# Altium schematic symbol library amp_instrument.SchLib: 55 symbols
Pins are listed as number, name and electrical type; pins without a type are passive.

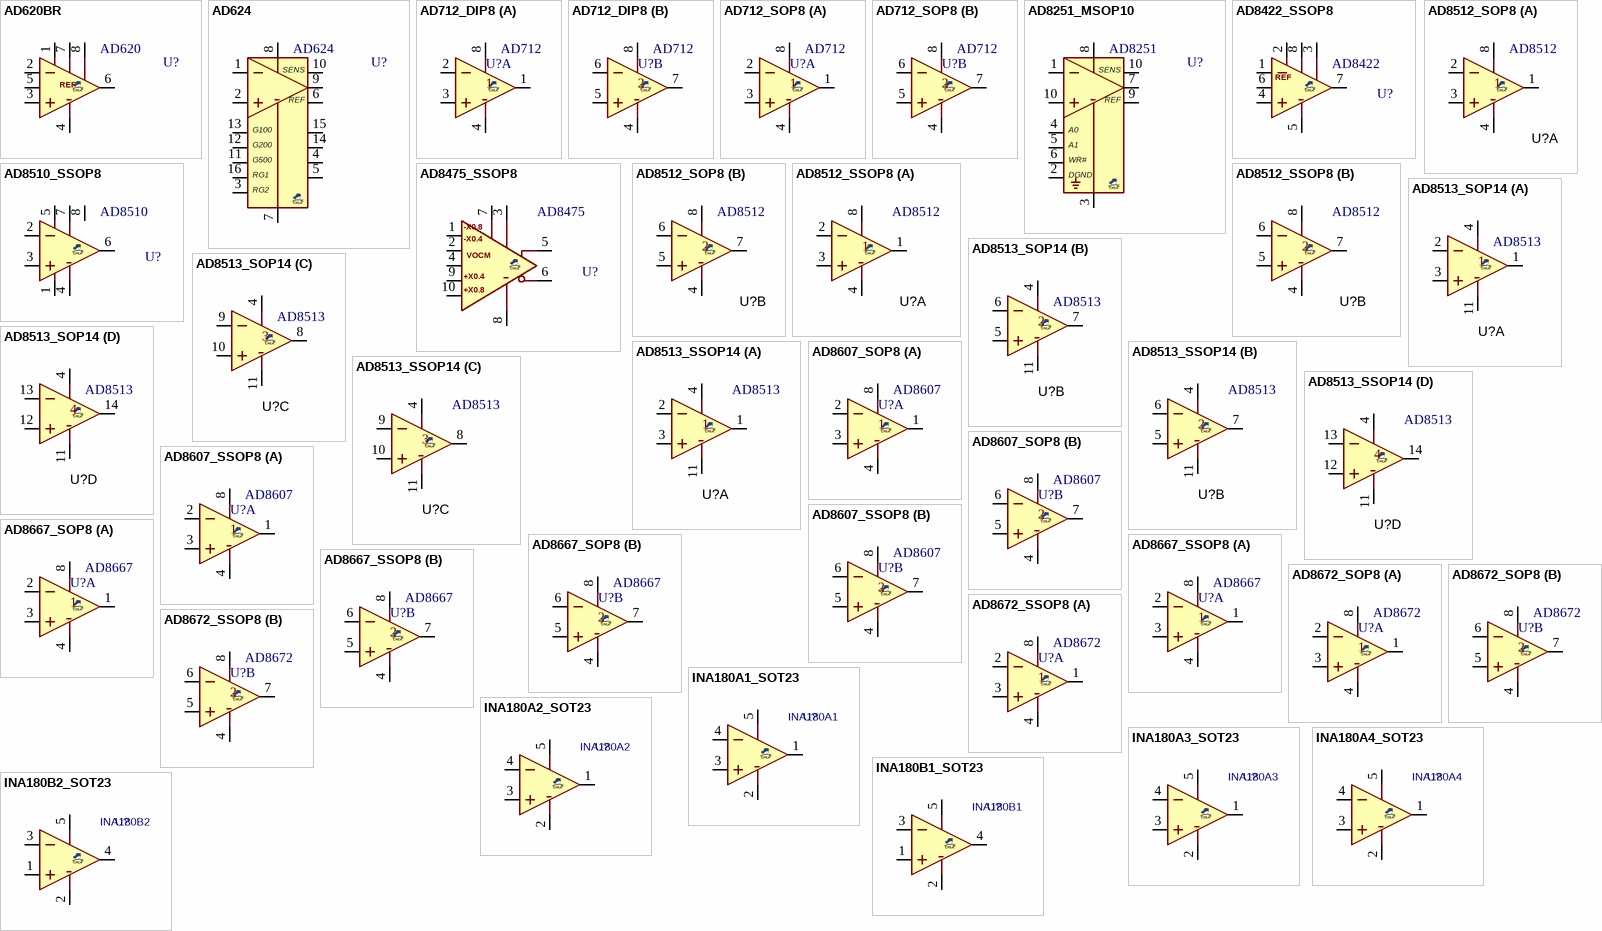
[diagram p0: symbols AD620BR to INA180B2_SOT23]

## AD620BR
designator U?, comment AD620
AMP, Inst, Low-power; MANF_P#: AD620BR; MANF: Analog Devices; VALUE: AD620
footprint SO_8
pins: 1 RG, 2 -IN, 3 +IN, 4 V-, 5 REF, 6 OUT, 7 V+, 8 RG

## AD624
designator U?
AMP, Inst, Precision; MANF: Analog Devices; MANF_P#: AD624; VALUE: AD624
footprint SO_8
pins: 1 -IN, 2 +IN, 3 RG2, 4, 5, 6 REF, 7 V-, 8 V+, 9 OUT, 10 SENS, 11 G500, 12 G200, 13 G100, 14, 15, 16 RG1

## AD712_DIP8
designator U?, comment AD712
AMP, Inst, Dual, Precision, Low Cost, High Sp, BiFET; MANF: Analog Devices; MANF_P#: AD712JN; PARAM2: ±4.5 To ±18 V Or +9 To +36 (V); VALUE: AD712
footprint DIP_8 (DIP, pitch 2.54mm, 300mil Width)
pins on every part: 4 V-, 8 V+
part A pins: 1 OUT, 2 IN-, 3 IN+
part B pins: 5 IN+, 6 IN-, 7 OUT

## AD712_SOP8
designator U?, comment AD712
AMP, Inst, Dual, Precision, Low Cost, High Sp, BiFET; MANF: Analog Devices; MANF_P#: AD712JRZ; PARAM2: ±4.5 To ±18 V Or +9 To +36 (V); VALUE: AD712
footprint SO_8
pins on every part: 4 V-, 8 V+
part A pins: 1 OUT, 2 IN-, 3 IN+
part B pins: 5 IN+, 6 IN-, 7 OUT

## AD8251_MSOP10
designator U?, comment AD8251
AMP, Inst, PGA, 10MHz, 20 V/μs, G=1/2/4/8, iCMOS; MANF_P#: AD8251ARMZ; MANF: Analog Devices; VALUE: AD8251
footprint SOG50_10
pins: 1 IN-, 2 DGND, 3 VS-, 4 A0, 5 A1, 6 ~{WR}, 7 OUT, 8 VS+, 9 REF, 10 SENS, 10 IN+
text: WR#

## AD8422_SSOP8
designator U?, comment AD8422
AMP, Inst, Precision,; MANF: Analog Devices; MANF_P#: AD8422BRMZ; PARAM: 2.2MHz BW, 8nV/√Hz@1KHz, 20mA OUTPUT; PARAM2: 4.6~36V/±2.3~±18V; PRICE: 5.8$; VALUE: AD8422
footprint SOG65_8_3 (TSSOP8, MICRO8,  DGK VSSOP-8, MSOP8,   RM-8, MS8, MSOP-8, TSSO3X5-G8/D3.1, 8 uMAX, usop8/8uSOP, MO-187AA, MO-153AA, SSOP DCT SM8 (TI), pitch: 0.65mm, 3.0mmX3.0mm)
pins: 1 IN-, 2 RG, 3 RG, 4 IN+, 5 V-, 6 REF, 7 OUT, 8 V+

## AD8475_SSOP8
designator U?, comment AD8475
AMP, Inst, Precision, Fully Differential, Selectable Gain; MANF: Analog Devices; MANF_P#: AD8475ARMZ; PARAM: 150MHz BW, 10nV/√Hz@1KHz, 110mA OUT; PARAM2: 3~10V/±1.5~±5V; PRICE: 5.5$; VALUE: AD8475
footprint SOG50_10 (MSSOP10, 3X3mm 0.5mm pitch, S-PDSO10_S300-50, MSOP10, 10uSOP/usop10 (Dallas), MO-187BA(JEDEC))
pins: 1 IN-0.8x, 2 IN-0.4x, 3 V+, 4 VOCM, 5 OUT+, 6 OUT-, 7 NC, 8 V-, 9 IN+0.4x, 10 IN+0.8x
text: -X0.8; -X0.4; +X0.4; +X0.8

## AD8510_SSOP8
designator U?, comment AD8510
AMP, Inst, Precision, Low Noise, Low Input; MANF: Analog Devices; MANF_P#: AD8510ARMZ; PARAM: 8MHz BW, 8nV/√Hz@1KHz, 70mA OUT; PARAM2: ±5~±15V; PRICE: 3$; VALUE: AD8510
footprint SOG65_8_3 (TSSOP8, MICRO8,  DGK VSSOP-8, MSOP8,   RM-8, MS8, MSOP-8, TSSO3X5-G8/D3.1, 8 uMAX, usop8/8uSOP, MO-187AA, MO-153AA, SSOP DCT SM8 (TI), pitch: 0.65mm, 3.0mmX3.0mm)
pins: 1 VOSTRIM, 2 IN-, 3 IN+, 4 V-, 5 VOSTRIM, 6 OUT, 7 V+, 8 NC

## AD8512_SOP8
designator U?, comment AD8512
AMP, Inst, Dual, Precision, Very Low Noise, Low Input Bias Current, Wide Bandwidth JFET; MANF: Analog Devices Inc; MANF_P#: AD8512BRZ; PARAM2: 2.7 V ~ 16 V, ±1.35 V ~ 8 V; VALUE: AD8512
footprint SO_8
pins on every part: 4 V- (power), 8 V+ (power)
part A pins: 1 OUT, 2 IN-, 3 IN+
part B pins: 5 IN+, 6 IN-, 7 OUT

## AD8512_SSOP8
designator U?, comment AD8512
AMP, Inst, Dual, Precision, Very Low Noise, Low Input Bias Current, Wide Bandwidth JFET; MANF: Analog Devices Inc; MANF_P#: AD8510ARMZ; PARAM2: 2.7 V ~ 16 V, ±1.35 V ~ 8 V; VALUE: AD8512
footprint SOG65_8_3 (pitch: 0.65mm, 3.0mmX3.0mm, SSOP DCT SM8 (TI), TSSOP8, MICRO8, DGK, MSOP8, RM-8, MS8, MSOP-8, usop8/8uSOP)
pins on every part: 4 V- (power), 8 V+ (power)
part A pins: 1 OUT, 2 IN-, 3 IN+
part B pins: 5 IN+, 6 IN-, 7 OUT

## AD8513_SOP14
designator U?, comment AD8513
AMP, Inst, QuaD, Precision, Very Low Noise, Low Input Bias Current, Wide Bandwidth JFET; MANF: Analog Devices Inc; MANF_P#: AD8513ARZ; PARAM2: ±4.5 V ~ 18 V; VALUE: AD8513
footprint SO_14
part A pins: 1 OUT, 2 IN-, 3 IN+, 4 V+, 11 V-
part B pins: 4 V+, 5 IN+, 6 IN-, 7 OUT, 11 V-
part C pins: 4 V+, 8 OUT, 9 IN-, 10 IN+, 11 V-
part D pins: 4 V+, 11 V-, 12 IN+, 13 IN-, 14 OUT

## AD8513_SSOP14
designator U?, comment AD8513
AMP, Inst, QuaD, Precision, Very Low Noise, Low Input Bias Current, Wide Bandwidth JFET; MANF: Analog Devices Inc; MANF_P#: AD8513ARUZ; PARAM2: ±4.5 V ~ 18 V; VALUE: AD8513
footprint SOG65_14 (PW TSSOP (TI), MO-153-AB (JEDEC), 14Lead, pitch: 0.65mm, 5x4.4x1.2mm)
part A pins: 1 OUT, 2 IN-, 3 IN+, 4 V+, 11 V-
part B pins: 4 V+, 5 IN+, 6 IN-, 7 OUT, 11 V-
part C pins: 4 V+, 8 OUT, 9 IN-, 10 IN+, 11 V-
part D pins: 4 V+, 11 V-, 12 IN+, 13 IN-, 14 OUT

## AD8607_SOP8
designator U?, comment AD8607
AMP, Inst, Dual, Precision Micropower, Low Noise CMOS; MANF: Analog Devices; MANF_P#: AD8607AR, AD8607ARZ; PARAM2: 1.8 V~5.0 V single supply, ±0.9 V~±2.5 V; VALUE: AD8607
footprint SO_8
pins on every part: 4 V-, 8 V+
part A pins: 1 OUT, 2 IN-, 3 IN+
part B pins: 5 IN+, 6 IN-, 7 OUT

## AD8607_SSOP8
designator U?, comment AD8607
AMP, Inst, Dual, Precision Micropower, Low Noise CMOS; MANF: Analog Devices; MANF_P#: AD8607ARM; PARAM2: 1.8 V~5.0 V single supply, ±0.9 V~±2.5 V; VALUE: AD8607
footprint SOG65_8_3 (pitch: 0.65mm, 3.0mmX3.0mm, SSOP DCT SM8 (TI), TSSOP8, MICRO8, DGK, MSOP8, RM-8, MS8, MSOP-8, usop8/8uSOP)
pins on every part: 4 V-, 8 V+
part A pins: 1 OUT, 2 IN-, 3 IN+
part B pins: 5 IN+, 6 IN-, 7 OUT

## AD8667_SOP8
designator U?, comment AD8667
AMP, Inst, Dual, Precision, Low Noise, 16V, CMOS; MANF: Analog Devices; MANF_P#: AD8667ARZ; PARAM2: 5~16V single supply, ±2.5~±8V; VALUE: AD8667
footprint SO_8
pins on every part: 4 V-, 8 V+
part A pins: 1 OUT, 2 IN-, 3 IN+
part B pins: 5 IN+, 6 IN-, 7 OUT

## AD8667_SSOP8
designator U?, comment AD8667
AMP, Inst, Dual, Precision, Low Noise, 16V, CMOS; MANF: Analog Devices; MANF_P#: AD8667ARMZ; PARAM2: 5~16V single supply, ±2.5~±8V; VALUE: AD8667
footprint SOG65_8_3 (pitch: 0.65mm, 3.0mmX3.0mm, SSOP DCT SM8 (TI), TSSOP8, MICRO8, DGK, MSOP8, RM-8, MS8, MSOP-8, usop8/8uSOP)
pins on every part: 4 V-, 8 V+
part A pins: 1 OUT, 2 IN-, 3 IN+
part B pins: 5 IN+, 6 IN-, 7 OUT

## AD8672_SOP8
designator U?, comment AD8672
AMP, Inst, Dual, Precision, Low Noise, Low Input Bias Current; MANF: Analog Devices; MANF_P#: AD8672AR, AD8672ARZ; PARAM2: ±5~±15V; VALUE: AD8672
footprint SO_8
pins on every part: 4 V-, 8 V+
part A pins: 1 OUT, 2 IN-, 3 IN+
part B pins: 5 IN+, 6 IN-, 7 OUT

## AD8672_SSOP8
designator U?, comment AD8672
AMP, Inst, Dual, Precision, Low Noise, Low Input Bias Current; MANF: Analog Devices; MANF_P#: AD8672ARMZ; PARAM2: ±5~±15V; VALUE: AD8672
footprint SOG65_8_3 (pitch: 0.65mm, 3.0mmX3.0mm, SSOP DCT SM8 (TI), TSSOP8, MICRO8, DGK, MSOP8, RM-8, MS8, MSOP-8, usop8/8uSOP)
pins on every part: 4 V-, 8 V+
part A pins: 1 OUT, 2 IN-, 3 IN+
part B pins: 5 IN+, 6 IN-, 7 OUT

## INA180A1_SOT23
designator U?, comment INA180A1
AMP, Inst, current-sense, low-Drift; MANF: TEXAS INSTRUMENTS; MANF_P#: INA180A1IDBV; PARAM2: 2.7~5.5Vcc, 40nV/√Hz noise, BW 350KHz; PARAM: 1uV/°C Drift, GAIN 20, -45~125°C; PRICE: 0.5$; VALUE: INA180A1
footprint SOT23_5 (SOT-23-5, SOT25, SOT-25, DBV(R-PDSO-G5), SOT753, TSOT23-5, SC-74A, SOT23-5, S5-T (LINEAR), MO-178AA, MO-193AB(JEDEC), MF05A (NS), TSOP-5(ON), UJ-5 (AD), 1.5x3mm, Pitch 0.65mm)
pins: 1 OUT, 2 GND, 3 IN+, 4 IN-, 5 VS

## INA180A2_SOT23
designator U?, comment INA180A2
AMP, Inst, current-sense, low-Drift; MANF: TEXAS INSTRUMENTS; MANF_P#: INA180A2IDBV; PARAM2: 2.7~5.5Vcc, 40nV/√Hz noise, BW 350KHz; PARAM: 1uV/°C Drift, GAIN 50, -45~125°C; PRICE: 0.5$; VALUE: INA180A2
footprint SOT23_5 (SOT-23-5, SOT25, SOT-25, DBV(R-PDSO-G5), SOT753, TSOT23-5, SC-74A, SOT23-5, S5-T (LINEAR), MO-178AA, MO-193AB(JEDEC), MF05A (NS), TSOP-5(ON), UJ-5 (AD), 1.5x3mm, Pitch 0.65mm)
pins: 1 OUT, 2 GND, 3 IN+, 4 IN-, 5 VS

## INA180A3_SOT23
designator U?, comment INA180A3
AMP, Inst, current-sense, low-Drift; MANF: TEXAS INSTRUMENTS; MANF_P#: INA180A3IDBV; PARAM2: 2.7~5.5Vcc, 40nV/√Hz noise, BW 350KHz; PARAM: 1uV/°C Drift, GAIN 100, -45~125°C; PRICE: 0.5$; VALUE: INA180A3
footprint SOT23_5 (SOT-23-5, SOT25, SOT-25, DBV(R-PDSO-G5), SOT753, TSOT23-5, SC-74A, SOT23-5, S5-T (LINEAR), MO-178AA, MO-193AB(JEDEC), MF05A (NS), TSOP-5(ON), UJ-5 (AD), 1.5x3mm, Pitch 0.65mm)
pins: 1 OUT, 2 GND, 3 IN+, 4 IN-, 5 VS

## INA180A4_SOT23
designator U?, comment INA180A4
AMP, Inst, current-sense, low-Drift; MANF: TEXAS INSTRUMENTS; MANF_P#: INA180A4IDBV; PARAM2: 2.7~5.5Vcc, 40nV/√Hz noise, BW 350KHz; PARAM: 1uV/°C Drift, GAIN 200, -45~125°C; PRICE: 0.5$; VALUE: INA180A4
footprint SOT23_5 (SOT-23-5, SOT25, SOT-25, DBV(R-PDSO-G5), SOT753, TSOT23-5, SC-74A, SOT23-5, S5-T (LINEAR), MO-178AA, MO-193AB(JEDEC), MF05A (NS), TSOP-5(ON), UJ-5 (AD), 1.5x3mm, Pitch 0.65mm)
pins: 1 OUT, 2 GND, 3 IN+, 4 IN-, 5 VS

## INA180B1_SOT23
designator U?, comment INA180B1
AMP, Inst, current-sense, low-Drift; MANF: TEXAS INSTRUMENTS; MANF_P#: INA180B1IDBV; PARAM2: 2.7~5.5Vcc, 40nV/√Hz noise, BW 350KHz; PARAM: 1uV/°C Drift, GAIN 20, -45~125°C; PRICE: 0.5$; VALUE: INA180B1
footprint SOT23_5 (SOT-23-5, SOT25, SOT-25, DBV(R-PDSO-G5), SOT753, TSOT23-5, SC-74A, SOT23-5, S5-T (LINEAR), MO-178AA, MO-193AB(JEDEC), MF05A (NS), TSOP-5(ON), UJ-5 (AD), 1.5x3mm, Pitch 0.65mm)
pins: 1 IN+, 2 GND, 3 IN-, 4 OUT, 5 VS

## INA180B2_SOT23
designator U?, comment INA180B2
AMP, Inst, current-sense, low-Drift; MANF: TEXAS INSTRUMENTS; MANF_P#: INA180B2IDBV; PARAM2: 2.7~5.5Vcc, 40nV/√Hz noise, BW 350KHz; PARAM: 1uV/°C Drift, GAIN 50, -45~125°C; PRICE: 0.5$; VALUE: INA180B2
footprint SOT23_5 (SOT-23-5, SOT25, SOT-25, DBV(R-PDSO-G5), SOT753, TSOT23-5, SC-74A, SOT23-5, S5-T (LINEAR), MO-178AA, MO-193AB(JEDEC), MF05A (NS), TSOP-5(ON), UJ-5 (AD), 1.5x3mm, Pitch 0.65mm)
pins: 1 IN+, 2 GND, 3 IN-, 4 OUT, 5 VS

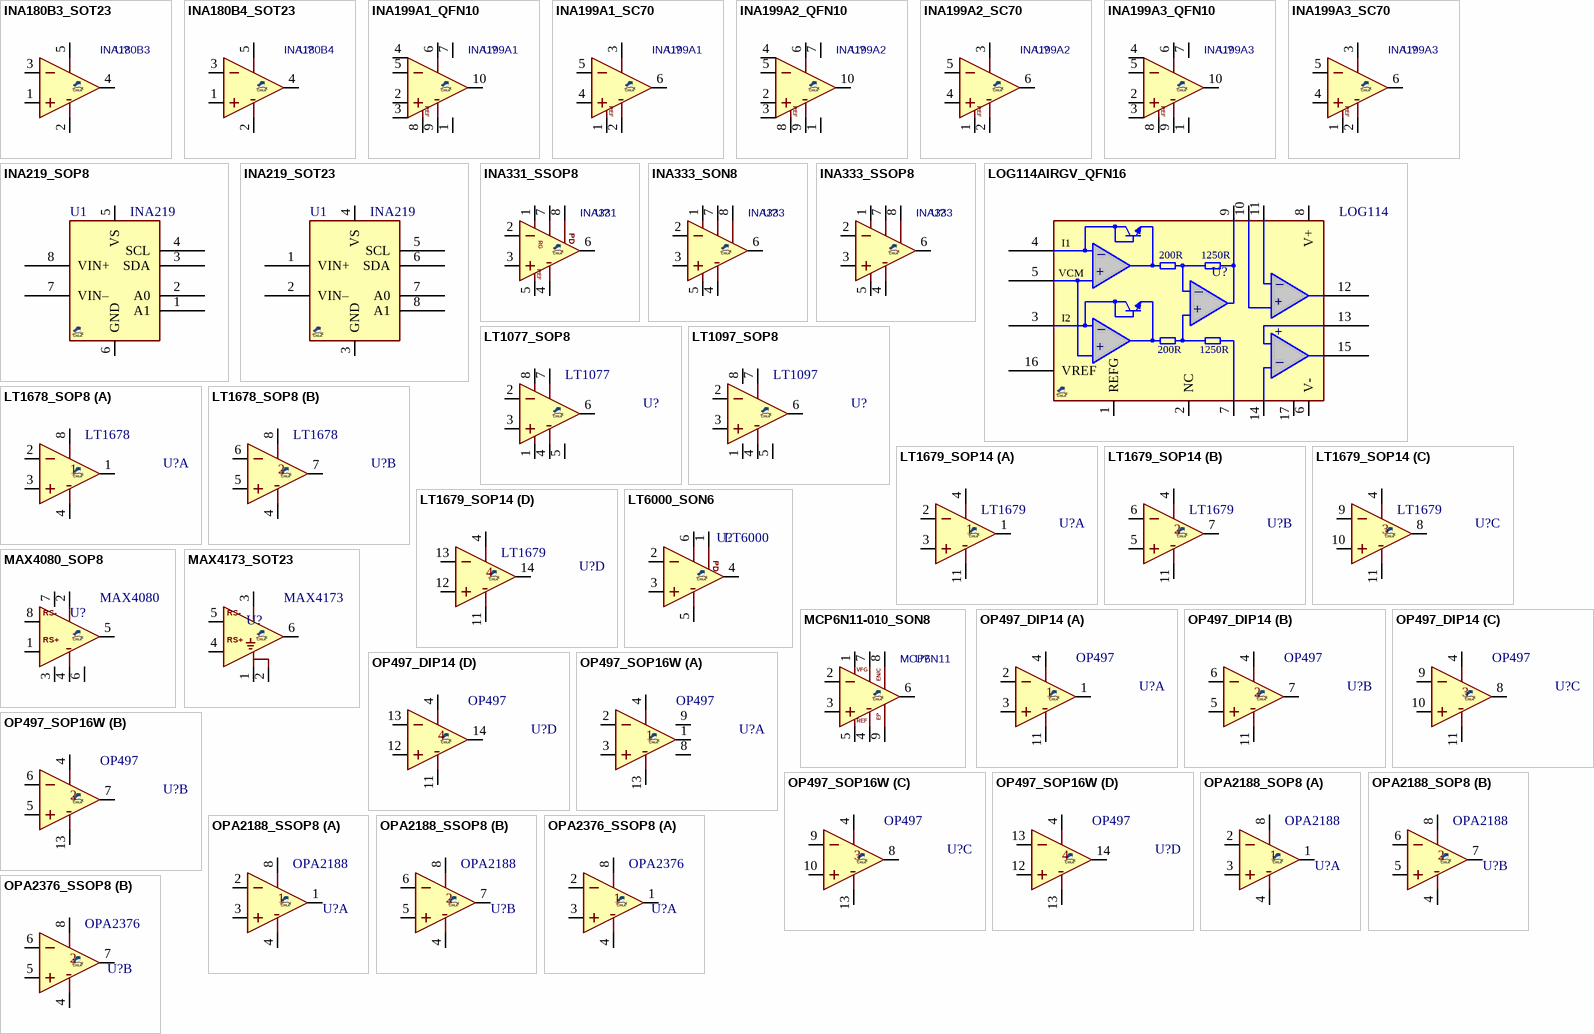
[diagram p1: symbols INA180B3_SOT23 to OPA2376_SSOP8]

## INA180B3_SOT23
designator U?, comment INA180B3
AMP, Inst, current-sense, low-Drift; MANF: TEXAS INSTRUMENTS; MANF_P#: INA180B3IDBV; PARAM2: 2.7~5.5Vcc, 40nV/√Hz noise, BW 350KHz; PARAM: 1uV/°C Drift, GAIN 100, -45~125°C; PRICE: 0.5$; VALUE: INA180B3
footprint SOT23_5 (SOT-23-5, SOT25, SOT-25, DBV(R-PDSO-G5), SOT753, TSOT23-5, SC-74A, SOT23-5, S5-T (LINEAR), MO-178AA, MO-193AB(JEDEC), MF05A (NS), TSOP-5(ON), UJ-5 (AD), 1.5x3mm, Pitch 0.65mm)
pins: 1 IN+, 2 GND, 3 IN-, 4 OUT, 5 VS

## INA180B4_SOT23
designator U?, comment INA180B4
AMP, Inst, current-sense, low-Drift; MANF: TEXAS INSTRUMENTS; MANF_P#: INA180B4IDBV; PARAM2: 2.7~5.5Vcc, 40nV/√Hz noise, BW 350KHz; PARAM: 1uV/°C Drift, GAIN 200, -45~125°C; PRICE: 0.5$; VALUE: INA180B4
footprint SOT23_5 (SOT-23-5, SOT25, SOT-25, DBV(R-PDSO-G5), SOT753, TSOT23-5, SC-74A, SOT23-5, S5-T (LINEAR), MO-178AA, MO-193AB(JEDEC), MF05A (NS), TSOP-5(ON), UJ-5 (AD), 1.5x3mm, Pitch 0.65mm)
pins: 1 IN+, 2 GND, 3 IN-, 4 OUT, 5 VS

## INA199A1_QFN10
designator U?, comment INA199A1
AMP, Inst, current-sense, low-Drift; MANF: TEXAS INSTRUMENTS; MANF_P#: INA199A1RSW; PARAM2: 2.7~26Vcc, 25nV/√Hz noise, BW 80KHz; PARAM: 0.5uV/°C Drift, GAIN 50, -45~125°C; PRICE: 0.8$; VALUE: INA199A1
footprint QFN40_10_1418 (PUQFN-10 RSW 1.8X1.4mm, 0.4mm pitch)
pins: 1 NC, 2 IN+, 3 IN+, 4 IN-, 5 IN-, 6 V+, 7 NC, 8 REF, 9 GND, 10 OUT

## INA199A1_SC70
designator U?, comment INA199A1
AMP, Inst, current-sense, low-Drift; MANF: TEXAS INSTRUMENTS; MANF_P#: INA199A1DCK; PARAM2: 2.7~26Vcc, 25nV/√Hz noise, BW 80KHz; PARAM: 0.5uV/°C Drift, GAIN 50, -45~125°C; PRICE: 0.8$; VALUE: INA199A1
footprint SOT363_6 (SOT-363, SC-70-6, DCK, BFS483, SC-88, MO-203AB, 2X1.2mm, 0.65mm pitch)
pins: 1 REF, 2 GND, 3 V+, 4 IN+, 5 IN-, 6 OUT

## INA199A2_QFN10
designator U?, comment INA199A2
AMP, Inst, current-sense, low-Drift; MANF: TEXAS INSTRUMENTS; MANF_P#: INA199A2RSW; PARAM2: 2.7~26Vcc, 25nV/√Hz noise, BW 80KHz; PARAM: 0.5uV/°C Drift, GAIN 100, -45~125°C; PRICE: 0.8$; VALUE: INA199A2
footprint QFN40_10_1418 (PUQFN-10 RSW 1.8X1.4mm, 0.4mm pitch)
pins: 1 NC, 2 IN+, 3 IN+, 4 IN-, 5 IN-, 6 V+, 7 NC, 8 REF, 9 GND, 10 OUT

## INA199A2_SC70
designator U?, comment INA199A2
AMP, Inst, current-sense, low-Drift; MANF: TEXAS INSTRUMENTS; MANF_P#: INA199A2DCK; PARAM2: 2.7~26Vcc, 25nV/√Hz noise, BW 80KHz; PARAM: 0.5uV/°C Drift, GAIN 100, -45~125°C; PRICE: 0.8$; VALUE: INA199A2
footprint SOT363_6 (SOT-363, SC-70-6, DCK, BFS483, SC-88, MO-203AB, 2X1.2mm, 0.65mm pitch)
pins: 1 REF, 2 GND, 3 V+, 4 IN+, 5 IN-, 6 OUT

## INA199A3_QFN10
designator U?, comment INA199A3
AMP, Inst, current-sense, low-Drift; MANF: TEXAS INSTRUMENTS; MANF_P#: INA199A3RSW; PARAM2: 2.7~26Vcc, 25nV/√Hz noise, BW 80KHz; PARAM: 0.5uV/°C Drift, GAIN 200, -45~125°C; PRICE: 0.8$; VALUE: INA199A3
footprint QFN40_10_1418 (PUQFN-10 RSW 1.8X1.4mm, 0.4mm pitch)
pins: 1 NC, 2 IN+, 3 IN+, 4 IN-, 5 IN-, 6 V+, 7 NC, 8 REF, 9 GND, 10 OUT

## INA199A3_SC70
designator U?, comment INA199A3
AMP, Inst, current-sense, low-Drift; MANF: TEXAS INSTRUMENTS; MANF_P#: INA199A3DCK; PARAM2: 2.7~26Vcc, 25nV/√Hz noise, BW 80KHz; PARAM: 0.5uV/°C Drift, GAIN 200, -45~125°C; PRICE: 0.8$; VALUE: INA199A3
footprint SOT363_6 (SOT-363, SC-70-6, DCK, BFS483, SC-88, MO-203AB, 2X1.2mm, 0.65mm pitch)
pins: 1 REF, 2 GND, 3 V+, 4 IN+, 5 IN-, 6 OUT

## INA219_SOP8
designator U1, comment INA219
Current/Power Monitor, Zerø-Drift, Bidirectional, I2C; MANF: TEXAS INSTRUMENTS; MANF_P#: INA219AID, INA219BID; PARAM2: 3~5.5VCC; PARAM: 0~26V, 0.5%, -40~125°C; VALUE: INA219
footprint SO_8 (SOP-8, 5x3.9mm body 1.27mm pitch, SOT96-1, M08A, S8, SOIC8, VO8, MS-012AA(JEDEC), R-8, 8S2, VOG8)
pins: 1 A1, 2 A0, 3 SDA, 4 SCL, 5 VS, 6 GND, 7 VIN–, 8 VIN+

## INA219_SOT23
designator U1, comment INA219
Current/Power Monitor, Zerø-Drift, Bidirectional, I2C; MANF: TEXAS INSTRUMENTS; MANF_P#: INA219AIDCN, INA219BIDCN; PARAM2: 3~5.5VCC; PARAM: 0~26V, 0.5%, -40~125°C; VALUE: INA219
footprint SOT23_8 (SOT23, 8-Leads, DDF, 2.90x2.80mm, Pitch 0.65mm, DSO65_8_300X150)
pins: 1 VIN+, 2 VIN–, 3 GND, 4 VS, 5 SCL, 6 SDA, 7 A0, 8 A1

## INA331_SSOP8
designator U?, comment INA331
AMP, Inst, Micro-power, Zerø-Drift; MANF: TEXAS INSTRUMENTS; MANF_P#: INA331IDGK; PARAM2: 2.7~5.5Vcc, 50nV/√Hz noise, 2MHz; PARAM: 0.1uV/°C Drift, 0.5pA input, -55~125°C; PRICE: 2.5$; VALUE: INA331
footprint SOG65_8_3 (TSSOP8, MICRO8,  DGK VSSOP-8, MSOP8,   RM-8, MS8, MSOP-8, TSSO3X5-G8/D3.1, 8 uMAX, usop8/8uSOP, MO-187AA, MO-153AA, SSOP DCT SM8 (TI), pitch: 0.65mm, 3.0mmX3.0mm)
pins: 1 RG1, 2 VIN_N, 3 VIN_P, 4 V-, 5 REF, 6 VOUT, 7 V+, 8 RG2
text: PD; RG

## INA333_SON8
designator U?, comment INA333
AMP, Inst, Micro-power, Zerø-Drift; MANF: TEXAS INSTRUMENTS; MANF_P#: INA333AIDRG; PARAM2: 1.8~5.5Vcc, 50nV/√Hz noise; PARAM: 0.1uV/°C Drift, 200pA input, -40~125°C; PRICE: 5$; VALUE: INA333
footprint SON50_8T_3030 (WSON-8, DRG, LFCSP_WD, 3X3mm 0.5mm pitch with Thermal pad)
pins: 1 RG1, 2 VIN_N, 3 VIN_P, 4 V-, 5 REF, 6 VOUT, 7 V+, 8 RG2

## INA333_SSOP8
designator U?, comment INA333
AMP, Inst, Micro-power, Zerø-Drift; MANF: TEXAS INSTRUMENTS; MANF_P#: INA333AIDGK; PARAM2: 1.8~5.5Vcc, 50nV/√Hz noise; PARAM: 0.1uV/°C Drift, 200pA input, -40~125°C; PRICE: 5$; VALUE: INA333
footprint SOG65_8_3 (TSSOP8, MICRO8,  DGK VSSOP-8, MSOP8,   RM-8, MS8, MSOP-8, TSSO3X5-G8/D3.1, 8 uMAX, usop8/8uSOP, MO-187AA, MO-153AA, SSOP DCT SM8 (TI), pitch: 0.65mm, 3.0mmX3.0mm)
pins: 1 RG1, 2 VIN_N, 3 VIN_P, 4 V-, 5 REF, 6 VOUT, 7 V+, 8 RG2

## LOG114AIRGV_QFN16
designator U?, comment LOG114
AMP, Inst, Logarithmic, Precision, High-Speed; MANF: Texas Instruments; MANF_P#: LOG114AIRGV; VALUE: LOG114
footprint QFN65_16T (MO-220 VGGC, MO-220 WGGC-4(JEDEC), 4X4mm, 0.65mm)
pins: 1 REFG, 2 NC, 3 I2, 4 I1, 5 Vcmin, 6 V-, 7 CON, 8 V+, 9 VlogOUT, 10 +IN4, 11 -IN4, 12 VO4, 13 +IN5, 14 -IN5, 15 VO5, 16 VREF, 17 PAD
text: _; 200R; 1250R; VCM; +

## LT1077_SOP8
designator U?, comment LT1077
AMP, Inst, Precision, Micropower; MANF: Linear Technology; MANF_P#: LT1077IS8#; PARAM2: 2.2~30V, ±1.1~15V; PARAM: GBW= 230KHz; VALUE: LT1077
footprint SO_8
pins: 1 VOSTRM, 2 IN-, 3 IN+, 4 V-, 5 NC, 6 OUT, 7 V+, 8 VOSTRIM

## LT1097_SOP8
designator U?, comment LT1097
AMP, Inst, Precision, Low Power, Low Cost; MANF: Linear Technology; MANF_P#: LT1097S8#; PARAM2: 2.7~16 V, ±1.35~8V; VALUE: LT1097
footprint SO_8
pins: 1, 2 IN-, 3 IN+, 4 V-, 5, 6 OUT, 7 V+, 8

## LT1678_SOP8
designator U?, comment LT1678
AMP, Inst, Dual, Precision, Low Noise, RR; MANF: Linear Technology; MANF_P#: LT1678CS8, LT1678IS8; PARAM2: 2.7~36V, ±1.35~18V; VALUE: LT1678
footprint SO_8
part A pins: 1 OUT, 2 IN-, 3 IN+, 4 V-, 8 V+
part B pins: 4 V-, 5 IN+, 6 IN-, 7 OUT, 8 V+

## LT1679_SOP14
designator U?, comment LT1679
AMP, Inst, Dual, Precision, Low Noise, RR; MANF: Linear Technology; MANF_P#: LT1679CS, LT1679IS; PARAM2: 2.7~36V, ±1.35~18V; VALUE: LT1679
footprint SO_14
pins on every part: 4 V+, 11 V-
part A pins: 1 OUT, 2 IN-, 3 IN+
part B pins: 5 IN+, 6 IN-, 7 OUT
part C pins: 8 OUT, 9 IN-, 10 IN+
part D pins: 12 IN+, 13 IN-, 14 OUT

## LT6000_SON6
designator U?, comment LT6000
AMP, Inst, Precision, 1.8V; MANF: Linear Technology; MANF_P#: LT6000CDCB, LT6000IDCB; VALUE: LT6000
footprint SON50_6T_2X3 (6-Lead DFN Pitch: 0.5mm 2x3x0.75mm with Thermal pad)
pins: 1 SHDN#, 2 IN-, 3 IN+, 4 OUT, 5 V-, 6 V+
text: PD

## MAX4080_SOP8
designator U?, comment MAX4080
AMP, Inst, Current Sense, 76V High-Side, w/V Out; MANF: Maxim Integrated; MANF_P#: MAX4080SASA+; VALUE: MAX4080
footprint SO_8
pins: 1 RS+, 2 VCC, 3, 4 GND, 5 OUT, 6, 7, 8 RS-

## MAX4173_SOT23
designator U?, comment MAX4173
AMP, Inst, Current Sense, w/V Output; MANF: MAX4173HEUT+T; MANF_P#: MAX4173FEUT+T, MAX4173HEUT+T; VALUE: MAX4173
footprint SOT23_6 (SOT-23-6, MICRO6, SOT-26, SOT457, SuperSOT6, TSOP-6, HMC313, MO-178AB, MO-193AA, TSOT)
pins: 1 GND, 2 GND2, 3 VCC, 4 RS+, 5 RS-, 6 OUT

## MCP6N11-010_SON8
designator U?, comment MCP6N11
AMP, Inst,; MANF: Microchip; MANF_P#: MCP6N11T-010E/MNY; PARAM2: 1.8~5.5Vcc, 950nV/√Hz noise, Gmin 10; PARAM: ±2.7uV/°C Drift, 10pA input, -40~125°C; PRICE: 1$; VALUE: MCP6N11
footprint SON50_8T_2030 (TDFN, UFDFPN8, Pitch: 0.5mm 2x3x0.8mm with Thermal pad)
pins: 1 VFG, 2 VIM, 3 VIP, 4 VSS, 5 VREF, 6 VOUT, 7 VDD, 8 EN/CAL, 9 EP
text: EN/C; REF

## OP497_DIP14
designator U?, comment OP497
AMP, Inst, Precision, PicoampereInputCurrent, QUAD; MANF: Analog Devices; MANF_P#: OP497GPZ, OP497FPZ; PARAM2: ±2~±20V; PARAM: 75uV OFFSET, 1uV/°C DRIFT, 150pA BIAS, -40~85°C; PRICE: 10$; VALUE: OP497
footprint DIP_14 (DIP, pitch 2.54mm, 300mil Width)
pins on every part: 4 V+, 11 V-
part A pins: 1 OUT, 2 IN-, 3 IN+
part B pins: 5 IN+, 6 IN-, 7 OUT
part C pins: 8 OUT, 9 IN-, 10 IN+
part D pins: 12 IN+, 13 IN-, 14 OUT

## OP497_SOP16W
designator U?, comment OP497
AMP, Inst, Precision, PicoampereInputCurrent, QUAD; MANF: Analog Devices; MANF_P#: OP497FSZ, OP497GSZ; PARAM2: ±2~±20V; PARAM: 75uV OFFSET, 1uV/°C DRIFT, 150pA BIAS, -40~85°C; PRICE: 5000t@PAYA, 8$; VALUE: OP497
footprint SO_16_W (SOP, SOIC, 7.5mm width, 1.27mm pitch,)
pins on every part: 4 V+, 13 V-
part A pins: 1 OUT, 2 IN-, 3 IN+, 8 NC, 9 NC
part B pins: 5 IN+, 6 IN-, 7 OUT
part C pins: 8 OUT, 9 IN-, 10 IN+
part D pins: 12 IN+, 13 IN-, 14 OUT

## OPA2188_SOP8
designator U?, comment OPA2188
AMP, Inst, DUAL, Precision, Low Noise, Low Quiescent Current; MANF: Texas Instruments; MANF_P#: OPA2188AID; PARAM2: 4~36v, 2MHz BW; PARAM: 850pA in, 18mA out, -40~105°C; PRICE: 3.3$; VALUE: OPA2188
footprint SO_8
pins on every part: 4 V-, 8 V+
part A pins: 1 OUT, 2 IN-, 3 IN+
part B pins: 5 IN+, 6 IN-, 7 OUT

## OPA2188_SSOP8
designator U?, comment OPA2188
AMP, Inst, DUAL, Precision, Low Noise, Low Quiescent Current; MANF: Texas Instruments; MANF_P#: OPA2188AIDGK; PARAM2: 4~36v, 2MHz BW; PARAM: 850pA in, 18mA out, -40~105°C; PRICE: 3.3$; VALUE: OPA2188
footprint SOG65_8_3 (pitch: 0.65mm, 3.0mmX3.0mm, SSOP DCT SM8 (TI), TSSOP8, MICRO8, DGK, MSOP8, RM-8, MS8, MSOP-8, usop8/8uSOP)
pins on every part: 4 V-, 8 V+
part A pins: 1 OUT, 2 IN-, 3 IN+
part B pins: 5 IN+, 6 IN-, 7 OUT

## OPA2376_SSOP8
designator U?, comment OPA2376
AMP, Inst, DUAL, Precision, Low Noise, Low Quiescent Current; MANF: Texas Instruments; MANF_P#: OPA2376AIDGK; VALUE: OPA2376
footprint SOG65_8_3 (pitch: 0.65mm, 3.0mmX3.0mm, SSOP DCT SM8 (TI), TSSOP8, MICRO8, DGK, MSOP8, RM-8, MS8, MSOP-8, usop8/8uSOP)
pins on every part: 4 V-, 8 V+
part A pins: 1 OUT, 2 IN-, 3 IN+
part B pins: 5 IN+, 6 IN-, 7 OUT

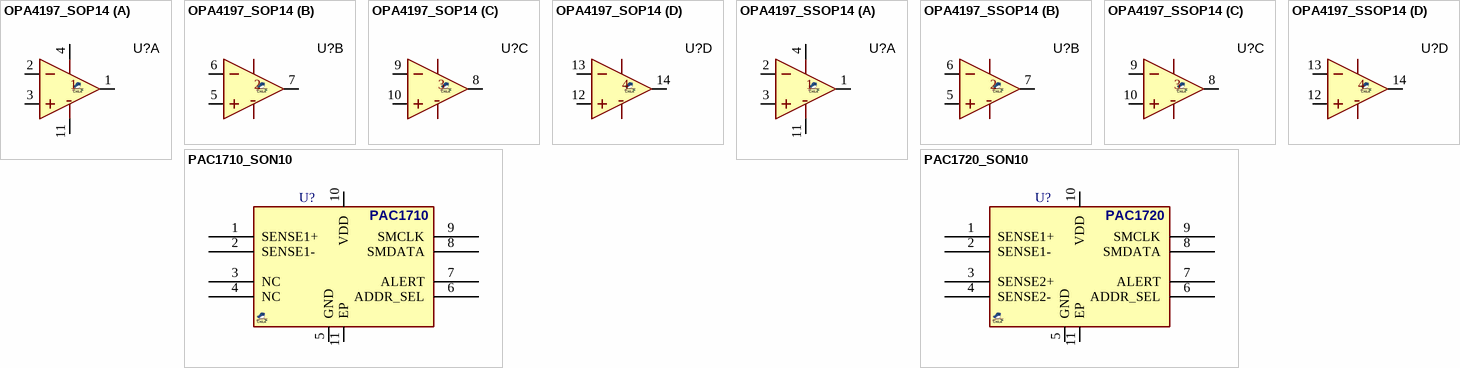
[diagram p2: symbols OPA4197_SOP14 to PAC1720_SON10]

## OPA4197_SOP14
designator U?, comment OPA4197  (value not drawn)
AMP, Inst, Precision, Low Offset, Rail-to-Rail Input Output, 36-V; MANF: Texas Instruments; MANF_P#: OPA4197ID; PARAM2: 4.5~36V, ±2.25~±18V; PARAM: 10MHz BW, -40~125oC; PRICE: 3$; VALUE: OPA4197
footprint SO_14 (SOP, SOIC, 3.9mm width, 1.27mm pitch,)
part A pins: 1 OUT, 2 IN-, 3 IN+, 4 V+, 11 V-
part B pins: 5 IN+, 6 IN-, 7 OUT
part C pins: 8 OUT, 9 IN-, 10 IN+
part D pins: 12 IN+, 13 IN-, 14 OUT
1 alternate drawing of the same symbol

## OPA4197_SSOP14
designator U?, comment OPA4197  (value not drawn)
AMP, Inst, Precision, Low Offset, Rail-to-Rail Input Output, 36-V; MANF: Texas Instruments; MANF_P#: OPA4197IPW; PARAM2: 4.5~36V, ±2.25~±18V; PARAM: 10MHz BW, -40~125oC; VALUE: OPA4197
footprint SOG65_14 (PW TSSOP (TI), MO-153-AB (JEDEC), 14Lead, pitch: 0.65mm, 5x4.4x1.2mm)
part A pins: 1 OUT, 2 IN-, 3 IN+, 4 V+, 11 V-
part B pins: 5 IN+, 6 IN-, 7 OUT
part C pins: 8 OUT, 9 IN-, 10 IN+
part D pins: 12 IN+, 13 IN-, 14 OUT
1 alternate drawing of the same symbol

## PAC1710_SON10
designator U?, comment PAC1710  (value not drawn)
Current/Power Monitor, Bidirectional, I2C; MANF: Microchip; MANF_P#: PAC1710-1-AIA; PARAM2: 3~5.5VCC; PARAM: 0~40V, -40~85°C; PRICE: 0.8$; VALUE: PAC1710
footprint SON50_10T_3030 (DRC SON(TI), 10 TDFN (MAXIM), 3X3mm, Pitch: 0.5mm with thermal pad)
pins: 1 SENSE1+, 2 SENSE1-, 3 NC, 4 NC, 5 GND, 6 ADDR_SEL, 7 ALERT, 8 SMDATA, 9 SMCLK, 10 VDD, 11 EP

## PAC1720_SON10
designator U?, comment PAC1720  (value not drawn)
Current/Power Monitor, Bidirectional, I2C; MANF: Microchip; MANF_P#: PAC1720-1-AIA; PARAM2: 3~5.5VCC; PARAM: 0~40V, -40~85°C; PRICE: 1$; VALUE: PAC1720
footprint SON50_10T_3030 (DRC SON(TI), 10 TDFN (MAXIM), 3X3mm, Pitch: 0.5mm with thermal pad)
pins: 1 SENSE1+, 2 SENSE1-, 3 SENSE2+, 4 SENSE2-, 5 GND, 6 ADDR_SEL, 7 ALERT, 8 SMDATA, 9 SMCLK, 10 VDD, 11 EP